# Altium footprint library MMBT3904.PcbLib: 3 footprints
Each footprint in its own frame and in the unit in brackets; x right, y up, seen from the top. Pads: shape width x height; smd on the part's side, far side on the other; paste and mask are expansions set on the pad; w line width, h text height; cw(c..) or ccw(c..) is an arc to the next point about the centre after c.
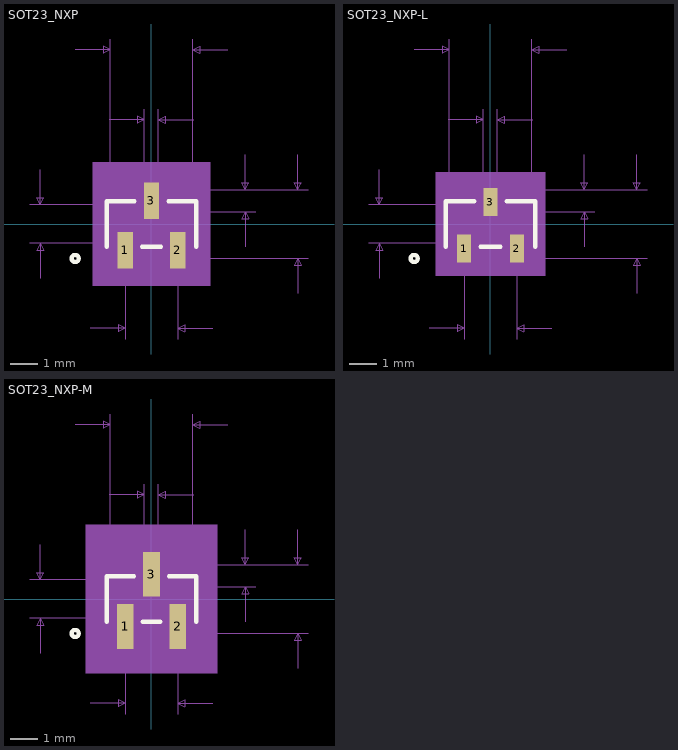
[diagram p0: the footprints below, top view; thin cyan lines are the x and y axes]

## SOT23_NXP [mil]
pads (3):
  rect 22x52 smd paste+3.86 mask+4: 1(-37.5,-37.21) 2(37.5,-37.21) 3(0,33.36)
Top Overlay:
  circle w6: c-109,-49.21 r5
  lines w6: -64,-32.5 -64,32.5 -24.1,32.5 ; -13.4,-32.5 13.4,-32.5 ; 24.1,32.5 64,32.5 64,-32.5
Mechanical 5:
  region: -84,88.21 84,88.21 84,-88.21 -84,-88.21
Mechanical 7:
  lines w1: -174,-27.5 0,-27.5 ; -174,27.5 0,27.5 ; -159,-77.5 -159,-27.5 ; -159,77.5 -159,27.5 ; -109,249.21 -59,249.21 ; -87.5,-149.21 -37.5,-149.21 ; -60,149.21 -10,149.21 ; -59,27.5 -59,264.21 ; -37.5,-164.21 -37.5,-49.21 ; -10,49.21 -10,164.21 ; 0,-49.21 224,-49.21 ; 0,17.5 149,17.5 ; 10,49.21 10,164.21 ; 37.5,-164.21 37.5,-49.21 ; 59,27.5 59,264.21 ; 60,149.21 10,149.21 ; 87.5,-149.21 37.5,-149.21 ; 109,249.21 59,249.21 ; 134,-32.5 134,17.5 ; 134,99.21 134,49.21 ; 149,49.21 0,49.21 224,49.21 ; 209,-99.21 209,-49.21 ; 209,99.21 209,49.21 ; -159,-27.5 -164,-37.5 -154,-37.5 -159,-27.5 ; -159,27.5 -164,37.5 -154,37.5 -159,27.5 ; -59,249.21 -69,254.21 -69,244.21 -59,249.21 ; -37.5,-149.21 -47.5,-144.21 -47.5,-154.21 -37.5,-149.21 ; -10,149.21 -20,154.21 -20,144.21 -10,149.21 ; 10,149.21 20,154.21 20,144.21 10,149.21 ; 37.5,-149.21 47.5,-144.21 47.5,-154.21 37.5,-149.21 ; 59,249.21 69,254.21 69,244.21 59,249.21 ; 134,17.5 129,7.5 139,7.5 134,17.5 ; 134,49.21 129,59.21 139,59.21 134,49.21 ; 209,-49.21 204,-59.21 214,-59.21 209,-49.21 ; 209,49.21 204,59.21 214,59.21 209,49.21
  text "Top Padstyle: RX22Y59p71D0T" at -337.5,-313.21 h50
  text "Bottom Padstyle: RX22Y59p71D0T" at -375,-388.21 h50
  text "Alt 1 Padstyle: OX60Y90D30P" at -337.5,-463.21 h50
  text "Alt 2 Padstyle: OX90Y60D30P" at -337.5,-538.21 h50
  text "0.098in/2.5mm" at 229,-12.5 h25
  text "0.024in/0.61mm" at 154,20.86 h25
  text "0.075in/1.905mm" at -93.75,-194.21 h25
  text "0.02in/0.508mm" at -87.5,169.21 h25
  text "0.118in/2.997mm" at -93.75,269.21 h25
  text "0.055in/1.397mm" at -366.5,-12.5 h25
Mechanical 13:
  circle w0: c-49,-17.5 r5
  lines w1: -59,-27.5 59,-27.5 59,27.5 -59,27.5 -59,-27.5 ; -47.5,-49.21 -47.5,-27.5 -27.5,-27.5 -27.5,-49.21 -47.5,-49.21 ; -10,27.5 10,27.5 10,49.21 -10,49.21 -10,27.5 ; 27.5,-49.21 27.5,-27.5 47.5,-27.5 47.5,-49.21 27.5,-49.21
Mechanical 15:
  region: -69,-37.5 -69,37.5 -21,37.5 -21,73.21 21,73.21 21,37.5 69,37.5 69,-37.5 58.5,-37.5 58.5,-73.21 -58.5,-73.21 -58.5,-37.5
  region: 59,-27.5 -59,-27.5 -59,27.5 59,27.5
  lines w6: -69,-37.5 -69,37.5 -21,37.5 -21,73.21 21,73.21 21,37.5 69,37.5 69,-37.5 58.5,-37.5 58.5,-73.21 -58.5,-73.21 -58.5,-37.5 -69,-37.5
3D body: height 10, standoff 0, extent 0,0 10,10

## SOT23_NXP-L [mil]
pads (3):
  rect 20x40 smd paste+3.86 mask+4: 1(-37.5,-35.21) 2(37.5,-35.21) 3(0,31.36)
Top Overlay:
  circle w6: c-109,-49.21 r5
  lines w6: -64,-32.5 -64,32.5 -23.1,32.5 ; -14.4,-32.5 14.4,-32.5 ; 23.1,32.5 64,32.5 64,-32.5
Mechanical 5:
  region: -78,74.21 78,74.21 78,-74.21 -78,-74.21
Mechanical 7:
  lines w1: -174,-27.5 0,-27.5 ; -174,27.5 0,27.5 ; -159,-77.5 -159,-27.5 ; -159,77.5 -159,27.5 ; -109,249.21 -59,249.21 ; -87.5,-149.21 -37.5,-149.21 ; -60,149.21 -10,149.21 ; -59,27.5 -59,264.21 ; -37.5,-164.21 -37.5,-49.21 ; -10,49.21 -10,164.21 ; 0,-49.21 224,-49.21 ; 0,17.5 149,17.5 ; 10,49.21 10,164.21 ; 37.5,-164.21 37.5,-49.21 ; 59,27.5 59,264.21 ; 60,149.21 10,149.21 ; 87.5,-149.21 37.5,-149.21 ; 109,249.21 59,249.21 ; 134,-32.5 134,17.5 ; 134,99.21 134,49.21 ; 149,49.21 0,49.21 224,49.21 ; 209,-99.21 209,-49.21 ; 209,99.21 209,49.21 ; -159,-27.5 -164,-37.5 -154,-37.5 -159,-27.5 ; -159,27.5 -164,37.5 -154,37.5 -159,27.5 ; -59,249.21 -69,254.21 -69,244.21 -59,249.21 ; -37.5,-149.21 -47.5,-144.21 -47.5,-154.21 -37.5,-149.21 ; -10,149.21 -20,154.21 -20,144.21 -10,149.21 ; 10,149.21 20,154.21 20,144.21 10,149.21 ; 37.5,-149.21 47.5,-144.21 47.5,-154.21 37.5,-149.21 ; 59,249.21 69,254.21 69,244.21 59,249.21 ; 134,17.5 129,7.5 139,7.5 134,17.5 ; 134,49.21 129,59.21 139,59.21 134,49.21 ; 209,-49.21 204,-59.21 214,-59.21 209,-49.21 ; 209,49.21 204,59.21 214,59.21 209,49.21
  text "Top Padstyle: RX20Y47p71D0T" at -337.5,-305.21 h50
  text "Bottom Padstyle: RX20Y47p71D0T" at -375,-380.21 h50
  text "Alt 1 Padstyle: OX60Y90D30P" at -337.5,-455.21 h50
  text "Alt 2 Padstyle: OX90Y60D30P" at -337.5,-530.21 h50
  text "0.098in/2.5mm" at 229,-12.5 h25
  text "0.024in/0.61mm" at 154,20.86 h25
  text "0.075in/1.905mm" at -93.75,-194.21 h25
  text "0.02in/0.508mm" at -87.5,169.21 h25
  text "0.118in/2.997mm" at -93.75,269.21 h25
  text "0.055in/1.397mm" at -366.5,-12.5 h25
Mechanical 13:
  circle w0: c-49,-17.5 r5
  lines w1: -59,-27.5 59,-27.5 59,27.5 -59,27.5 -59,-27.5 ; -47.5,-49.21 -47.5,-27.5 -27.5,-27.5 -27.5,-49.21 -47.5,-49.21 ; -10,27.5 10,27.5 10,49.21 -10,49.21 -10,27.5 ; 27.5,-49.21 27.5,-27.5 47.5,-27.5 47.5,-49.21 27.5,-49.21
Mechanical 15:
  region: -63,-31.5 -63,31.5 -14,31.5 -14,59.21 14,59.21 14,31.5 63,31.5 63,-31.5 51.5,-31.5 51.5,-59.21 -51.5,-59.21 -51.5,-31.5
  region: 59,-27.5 -59,-27.5 -59,27.5 59,27.5
  lines w6: -63,-31.5 -63,31.5 -14,31.5 -14,59.21 14,59.21 14,31.5 63,31.5 63,-31.5 51.5,-31.5 51.5,-59.21 -51.5,-59.21 -51.5,-31.5 -63,-31.5
3D body: height 10, standoff 0, extent 0,0 10,10

## SOT23_NXP-M [mil]
pads (3):
  rect 24x64 smd paste+3.86 mask+4: 1(-37.5,-39.21) 2(37.5,-39.21) 3(0,35.36)
Top Overlay:
  circle w6: c-109,-49.21 r5
  lines w6: -64,-32.5 -64,32.5 -25.1,32.5 ; -12.4,-32.5 12.4,-32.5 ; 25.1,32.5 64,32.5 64,-32.5
Mechanical 5:
  region: -94,106.21 94,106.21 94,-106.21 -94,-106.21
Mechanical 7:
  lines w1: -174,-27.5 0,-27.5 ; -174,27.5 0,27.5 ; -159,-77.5 -159,-27.5 ; -159,77.5 -159,27.5 ; -109,249.21 -59,249.21 ; -87.5,-149.21 -37.5,-149.21 ; -60,149.21 -10,149.21 ; -59,27.5 -59,264.21 ; -37.5,-164.21 -37.5,-49.21 ; -10,49.21 -10,164.21 ; 0,-49.21 224,-49.21 ; 0,17.5 149,17.5 ; 10,49.21 10,164.21 ; 37.5,-164.21 37.5,-49.21 ; 59,27.5 59,264.21 ; 60,149.21 10,149.21 ; 87.5,-149.21 37.5,-149.21 ; 109,249.21 59,249.21 ; 134,-32.5 134,17.5 ; 134,99.21 134,49.21 ; 149,49.21 0,49.21 224,49.21 ; 209,-99.21 209,-49.21 ; 209,99.21 209,49.21 ; -159,-27.5 -164,-37.5 -154,-37.5 -159,-27.5 ; -159,27.5 -164,37.5 -154,37.5 -159,27.5 ; -59,249.21 -69,254.21 -69,244.21 -59,249.21 ; -37.5,-149.21 -47.5,-144.21 -47.5,-154.21 -37.5,-149.21 ; -10,149.21 -20,154.21 -20,144.21 -10,149.21 ; 10,149.21 20,154.21 20,144.21 10,149.21 ; 37.5,-149.21 47.5,-144.21 47.5,-154.21 37.5,-149.21 ; 59,249.21 69,254.21 69,244.21 59,249.21 ; 134,17.5 129,7.5 139,7.5 134,17.5 ; 134,49.21 129,59.21 139,59.21 134,49.21 ; 209,-49.21 204,-59.21 214,-59.21 209,-49.21 ; 209,49.21 204,59.21 214,59.21 209,49.21
  text "Top Padstyle: RX24Y71p71D0T" at -337.5,-321.21 h50
  text "Bottom Padstyle: RX24Y71p71D0T" at -375,-396.21 h50
  text "Alt 1 Padstyle: OX60Y90D30P" at -337.5,-471.21 h50
  text "Alt 2 Padstyle: OX90Y60D30P" at -337.5,-546.21 h50
  text "0.098in/2.5mm" at 229,-12.5 h25
  text "0.024in/0.61mm" at 154,20.86 h25
  text "0.075in/1.905mm" at -93.75,-194.21 h25
  text "0.02in/0.508mm" at -87.5,169.21 h25
  text "0.118in/2.997mm" at -93.75,269.21 h25
  text "0.055in/1.397mm" at -366.5,-12.5 h25
Mechanical 13:
  circle w0: c-49,-17.5 r5
  lines w1: -59,-27.5 59,-27.5 59,27.5 -59,27.5 -59,-27.5 ; -47.5,-49.21 -47.5,-27.5 -27.5,-27.5 -27.5,-49.21 -47.5,-49.21 ; -10,27.5 10,27.5 10,49.21 -10,49.21 -10,27.5 ; 27.5,-49.21 27.5,-27.5 47.5,-27.5 47.5,-49.21 27.5,-49.21
Mechanical 15:
  region: -79,-47.5 -79,47.5 -32,47.5 -32,91.21 32,91.21 32,47.5 79,47.5 79,-47.5 69.5,-47.5 69.5,-91.21 -69.5,-91.21 -69.5,-47.5
  region: 59,-27.5 -59,-27.5 -59,27.5 59,27.5
  lines w6: -79,-47.5 -79,47.5 -32,47.5 -32,91.21 32,91.21 32,47.5 79,47.5 79,-47.5 69.5,-47.5 69.5,-91.21 -69.5,-91.21 -69.5,-47.5 -79,-47.5
3D body: height 10, standoff 0, extent 0,0 10,10